# Altium schematic symbol library RELAY_SPDT.SchLib: 1 symbol
Pins are listed as number, name and electrical type; pins without a type are passive.

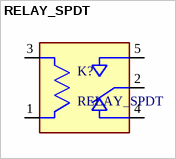
[diagram p0: symbol RELAY_SPDT]

## RELAY_SPDT
designator K?
Electromechanical Relay 5VDC 15A SPDT( (19.2mm 15.5mm 15mm)) THT General Purpose Relay; MP: 1-1721150-0; Package: None; Value: *; Availability: Unavailable; Price: None
footprint RELAY_1-1721150-0
pins: 1, 2, 3, 4, 5